# Altium schematic symbol library Header-6_PMOD.SchLib: 1 symbol
Pins are listed as number, name and electrical type; pins without a type are passive.

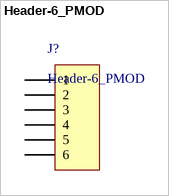
[diagram p0: symbol Header-6_PMOD]

## Header-6_PMOD
designator J?
pins: 1, 2, 3, 4, 5, 6